# Altium integrated library WE_SMSI_rev20c.IntLib: 169 symbols (part 2 of 3)
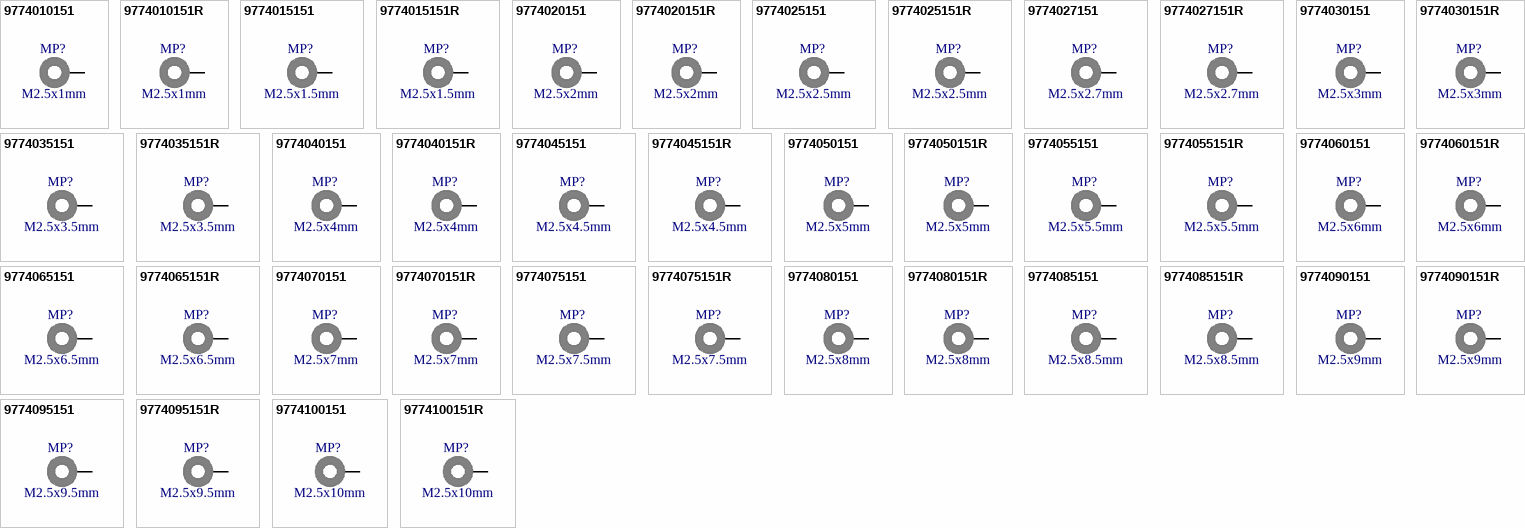
[diagram p7: symbols 9774010151 to 9774100151R]

## 9774070151
designator MP?, comment M2.5x7mm
WA-SMSI SMT Steel Spacer, M2.5 Thread Internal, OD 5.1mm, M2.5x7mm; Manufacturer Part Number: 9774070151; Manufacturer: Wurth Elektronik; Inner Diameter: 3.5mm; Surface: Tin; ComponentLink1Description: Manufacturer; ComponentLink1URL: http://www.we-online.de; ComponentLink2Description: Datasheet; ComponentLink2URL: https://www.we-online.com/catalog/datasheet/9774070151.pdf; Mounting Technology: SMT; Packaging: Bulk; Length: 7mm; Inner Thread Length: -; Operating Temperature: -55 to +150degC; Outer Diameter: 5.1mm; Published Date: April 2020; Material: Steel; Thread: M2.5
footprint 9774070151
pins: 1

## 9774070151R
designator MP?, comment M2.5x7mm
WA-SMSI SMT Steel Spacer, M2.5 Thread Internal, OD 5.1mm, M2.5x7mm; Manufacturer Part Number: 9774070151R; Manufacturer: Wurth Elektronik; Inner Diameter: 3.5mm; Surface: Tin; ComponentLink1Description: Manufacturer; ComponentLink1URL: http://www.we-online.de; ComponentLink2Description: Datasheet; ComponentLink2URL: https://www.we-online.com/catalog/datasheet/9774070151R.pdf; Mounting Technology: SMT; Packaging: Tape and Reel; Length: 7mm; Inner Thread Length: -; Operating Temperature: -55 to +150degC; Outer Diameter: 5.1mm; Published Date: April 2020; Material: Steel; Thread: M2.5
footprint 9774070151
pins: 1

## 9774075151
designator MP?, comment M2.5x7.5mm
WA-SMSI SMT Steel Spacer, M2.5 Thread Internal, OD 5.1mm, M2.5x7.5mm; Manufacturer Part Number: 9774075151; Manufacturer: Wurth Elektronik; Inner Diameter: 3.5mm; Surface: Tin; ComponentLink1Description: Manufacturer; ComponentLink1URL: http://www.we-online.de; ComponentLink2Description: Datasheet; ComponentLink2URL: https://www.we-online.com/catalog/datasheet/9774075151.pdf; Mounting Technology: SMT; Packaging: Bulk; Length: 7.5mm; Inner Thread Length: -; Operating Temperature: -55 to +150degC; Outer Diameter: 5.1mm; Published Date: April 2020; Material: Steel; Thread: M2.5
footprint 9774075151
pins: 1

## 9774075151R
designator MP?, comment M2.5x7.5mm
WA-SMSI SMT Steel Spacer, M2.5 Thread Internal, OD 5.1mm, M2.5x7.5mm; Manufacturer Part Number: 9774075151R; Manufacturer: Wurth Elektronik; Inner Diameter: 3.5mm; Surface: Tin; ComponentLink1Description: Manufacturer; ComponentLink1URL: http://www.we-online.de; ComponentLink2Description: Datasheet; ComponentLink2URL: https://www.we-online.com/catalog/datasheet/9774075151R.pdf; Mounting Technology: SMT; Packaging: Tape and Reel; Length: 7.5mm; Inner Thread Length: -; Operating Temperature: -55 to +150degC; Outer Diameter: 5.1mm; Published Date: April 2020; Material: Steel; Thread: M2.5
footprint 9774075151
pins: 1

## 9774080151
designator MP?, comment M2.5x8mm
WA-SMSI SMT Steel Spacer, M2.5 Thread Internal, OD 5.1mm, M2.5x8mm; Manufacturer Part Number: 9774080151; Manufacturer: Wurth Elektronik; Inner Diameter: 3.5mm; Surface: Tin; ComponentLink1Description: Manufacturer; ComponentLink1URL: http://www.we-online.de; ComponentLink2Description: Datasheet; ComponentLink2URL: https://www.we-online.com/catalog/datasheet/9774080151.pdf; Mounting Technology: SMT; Packaging: Bulk; Length: 8mm; Inner Thread Length: -; Operating Temperature: -55 to +150degC; Outer Diameter: 5.1mm; Published Date: April 2020; Material: Steel; Thread: M2.5
footprint 9774080151
pins: 1

## 9774080151R
designator MP?, comment M2.5x8mm
WA-SMSI SMT Steel Spacer, M2.5 Thread Internal, OD 5.1mm, M2.5x8mm; Manufacturer Part Number: 9774080151R; Manufacturer: Wurth Elektronik; Inner Diameter: 3.5mm; Surface: Tin; ComponentLink1Description: Manufacturer; ComponentLink1URL: http://www.we-online.de; ComponentLink2Description: Datasheet; ComponentLink2URL: https://www.we-online.com/catalog/datasheet/9774080151R.pdf; Mounting Technology: SMT; Packaging: Tape and Reel; Length: 8mm; Inner Thread Length: -; Operating Temperature: -55 to +150degC; Outer Diameter: 5.1mm; Published Date: April 2020; Material: Steel; Thread: M2.5
footprint 9774080151
pins: 1

## 9774085151
designator MP?, comment M2.5x8.5mm
WA-SMSI SMT Steel Spacer, M2.5 Thread Internal, OD 5.1mm, M2.5x8.5mm; Manufacturer Part Number: 9774085151; Manufacturer: Wurth Elektronik; Inner Diameter: 3.5mm; Surface: Tin; ComponentLink1Description: Manufacturer; ComponentLink1URL: http://www.we-online.de; ComponentLink2Description: Datasheet; ComponentLink2URL: https://www.we-online.com/catalog/datasheet/9774085151.pdf; Mounting Technology: SMT; Packaging: Bulk; Length: 8.5mm; Inner Thread Length: -; Operating Temperature: -55 to +150degC; Outer Diameter: 5.1mm; Published Date: April 2020; Material: Steel; Thread: M2.5
footprint 9774085151
pins: 1

## 9774085151R
designator MP?, comment M2.5x8.5mm
WA-SMSI SMT Steel Spacer, M2.5 Thread Internal, OD 5.1mm, M2.5x8.5mm; Manufacturer Part Number: 9774085151R; Manufacturer: Wurth Elektronik; Inner Diameter: 3.5mm; Surface: Tin; ComponentLink1Description: Manufacturer; ComponentLink1URL: http://www.we-online.de; ComponentLink2Description: Datasheet; ComponentLink2URL: https://www.we-online.com/catalog/datasheet/9774085151R.pdf; Mounting Technology: SMT; Packaging: Tape and Reel; Length: 8.5mm; Inner Thread Length: -; Operating Temperature: -55 to +150degC; Outer Diameter: 5.1mm; Published Date: April 2020; Material: Steel; Thread: M2.5
footprint 9774085151
pins: 1

## 9774090151
designator MP?, comment M2.5x9mm
WA-SMSI SMT Steel Spacer, M2.5 Thread Internal, OD 5.1mm, M2.5x9mm; Manufacturer Part Number: 9774090151; Manufacturer: Wurth Elektronik; Inner Diameter: 3.5mm; Surface: Tin; ComponentLink1Description: Manufacturer; ComponentLink1URL: http://www.we-online.de; ComponentLink2Description: Datasheet; ComponentLink2URL: https://www.we-online.com/catalog/datasheet/9774090151.pdf; Mounting Technology: SMT; Packaging: Bulk; Length: 9mm; Inner Thread Length: -; Operating Temperature: -55 to +150degC; Outer Diameter: 5.1mm; Published Date: April 2020; Material: Steel; Thread: M2.5
footprint 9774090151
pins: 1

## 9774090151R
designator MP?, comment M2.5x9mm
WA-SMSI SMT Steel Spacer, M2.5 Thread Internal, OD 5.1mm, M2.5x9mm; Manufacturer Part Number: 9774090151R; Manufacturer: Wurth Elektronik; Inner Diameter: 3.5mm; Surface: Tin; ComponentLink1Description: Manufacturer; ComponentLink1URL: http://www.we-online.de; ComponentLink2Description: Datasheet; ComponentLink2URL: https://www.we-online.com/catalog/datasheet/9774090151R.pdf; Mounting Technology: SMT; Packaging: Tape and Reel; Length: 9mm; Inner Thread Length: -; Operating Temperature: -55 to +150degC; Outer Diameter: 5.1mm; Published Date: April 2020; Material: Steel; Thread: M2.5
footprint 9774090151
pins: 1

## 9774095151
designator MP?, comment M2.5x9.5mm
WA-SMSI SMT Steel Spacer, M2.5 Thread Internal, OD 5.1mm, M2.5x9.5mm; Manufacturer Part Number: 9774095151; Manufacturer: Wurth Elektronik; Inner Diameter: 3.5mm; Surface: Tin; ComponentLink1Description: Manufacturer; ComponentLink1URL: http://www.we-online.de; ComponentLink2Description: Datasheet; ComponentLink2URL: https://www.we-online.com/catalog/datasheet/9774095151.pdf; Mounting Technology: SMT; Packaging: Bulk; Length: 9.5mm; Inner Thread Length: -; Operating Temperature: -55 to +150degC; Outer Diameter: 5.1mm; Published Date: April 2020; Material: Steel; Thread: M2.5
footprint 9774095151
pins: 1

## 9774095151R
designator MP?, comment M2.5x9.5mm
WA-SMSI SMT Steel Spacer, M2.5 Thread Internal, OD 5.1mm, M2.5x9.5mm; Manufacturer Part Number: 9774095151R; Manufacturer: Wurth Elektronik; Inner Diameter: 3.5mm; Surface: Tin; ComponentLink1Description: Manufacturer; ComponentLink1URL: http://www.we-online.de; ComponentLink2Description: Datasheet; ComponentLink2URL: https://www.we-online.com/catalog/datasheet/9774095151R.pdf; Mounting Technology: SMT; Packaging: Tape and Reel; Length: 9.5mm; Inner Thread Length: -; Operating Temperature: -55 to +150degC; Outer Diameter: 5.1mm; Published Date: April 2020; Material: Steel; Thread: M2.5
footprint 9774095151
pins: 1

## 9774100151
designator MP?, comment M2.5x10mm
WA-SMSI SMT Steel Spacer, M2.5 Thread Internal, OD 5.1mm, M2.5x10mm; Manufacturer Part Number: 9774100151; Manufacturer: Wurth Elektronik; Inner Diameter: 3.5mm; Surface: Tin; ComponentLink1Description: Manufacturer; ComponentLink1URL: http://www.we-online.de; ComponentLink2Description: Datasheet; ComponentLink2URL: https://www.we-online.com/catalog/datasheet/9774100151.pdf; Mounting Technology: SMT; Packaging: Bulk; Length: 10mm; Inner Thread Length: -; Operating Temperature: -55 to +150degC; Outer Diameter: 5.1mm; Published Date: April 2020; Material: Steel; Thread: M2.5
footprint 9774100151
pins: 1

## 9774100151R
designator MP?, comment M2.5x10mm
WA-SMSI SMT Steel Spacer, M2.5 Thread Internal, OD 5.1mm, M2.5x10mm; Manufacturer Part Number: 9774100151R; Manufacturer: Wurth Elektronik; Inner Diameter: 3.5mm; Surface: Tin; ComponentLink1Description: Manufacturer; ComponentLink1URL: http://www.we-online.de; ComponentLink2Description: Datasheet; ComponentLink2URL: https://www.we-online.com/catalog/datasheet/9774100151R.pdf; Mounting Technology: SMT; Packaging: Tape and Reel; Length: 10mm; Inner Thread Length: -; Operating Temperature: -55 to +150degC; Outer Diameter: 5.1mm; Published Date: April 2020; Material: Steel; Thread: M2.5
footprint 9774100151
pins: 1


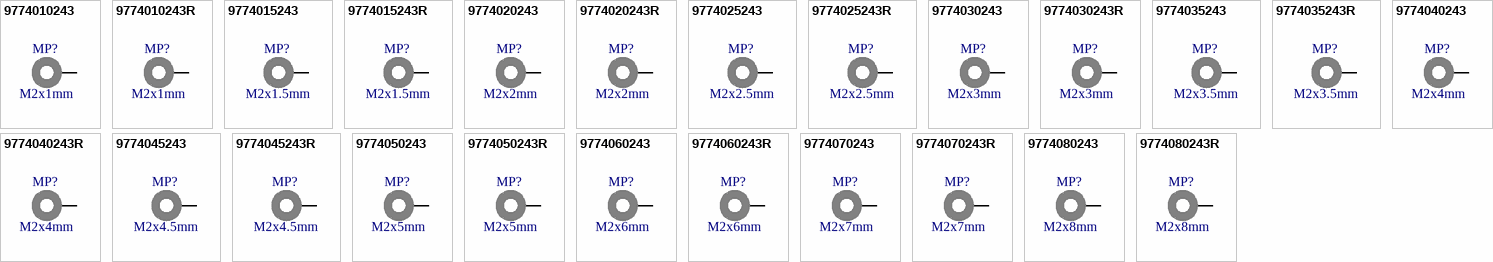
[diagram p3: symbols 9774010243 to 9774080243R]

## 9774010243
designator MP?, comment M2x1mm
WA-SMSI SMT Steel Spacer, M2 Thread Internal, OD 4.35mm, M2x1mm; Manufacturer Part Number: 9774010243; Manufacturer: Wurth Elektronik; Inner Diameter: 2.8mm; Surface: Tin; ComponentLink1Description: Manufacturer; ComponentLink1URL: http://www.we-online.de; ComponentLink2Description: Datasheet; ComponentLink2URL: https://www.we-online.com/catalog/datasheet/9774010243.pdf; Mounting Technology: SMT; Packaging: Bulk; Length: 1mm; Inner Thread Length: -; Operating Temperature: -55 to +150degC; Outer Diameter: 4.35mm; Published Date: April 2020; Material: Steel; Thread: M2
footprint 9774010243
pins: 1

## 9774010243R
designator MP?, comment M2x1mm
WA-SMSI SMT Steel Spacer, M2 Thread Internal, OD 4.35mm, M2x1mm; Manufacturer Part Number: 9774010243R; Manufacturer: Wurth Elektronik; Inner Diameter: 2.8mm; Surface: Tin; ComponentLink1Description: Manufacturer; ComponentLink1URL: http://www.we-online.de; ComponentLink2Description: Datasheet; ComponentLink2URL: https://www.we-online.com/catalog/datasheet/9774010243R.pdf; Mounting Technology: SMT; Packaging: Tape and Reel; Length: 1mm; Inner Thread Length: -; Operating Temperature: -55 to +150degC; Outer Diameter: 4.35mm; Published Date: April 2020; Material: Steel; Thread: M2
footprint 9774010243
pins: 1

## 9774015243
designator MP?, comment M2x1.5mm
WA-SMSI SMT Steel Spacer, M2 Thread Internal, OD 4.35mm, M2x1.5mm; Manufacturer Part Number: 9774015243; Manufacturer: Wurth Elektronik; Inner Diameter: 2.8mm; Surface: Tin; ComponentLink1Description: Manufacturer; ComponentLink1URL: http://www.we-online.de; ComponentLink2Description: Datasheet; ComponentLink2URL: https://www.we-online.com/catalog/datasheet/9774015243.pdf; Mounting Technology: SMT; Packaging: Bulk; Length: 1.5mm; Inner Thread Length: -; Operating Temperature: -55 to +150degC; Outer Diameter: 4.35mm; Published Date: April 2020; Material: Steel; Thread: M2
footprint 9774015243
pins: 1

## 9774015243R
designator MP?, comment M2x1.5mm
WA-SMSI SMT Steel Spacer, M2 Thread Internal, OD 4.35mm, M2x1.5mm; Manufacturer Part Number: 9774015243R; Manufacturer: Wurth Elektronik; Inner Diameter: 2.8mm; Surface: Tin; ComponentLink1Description: Manufacturer; ComponentLink1URL: http://www.we-online.de; ComponentLink2Description: Datasheet; ComponentLink2URL: https://www.we-online.com/catalog/datasheet/9774015243R.pdf; Mounting Technology: SMT; Packaging: Tape and Reel; Length: 1.5mm; Inner Thread Length: -; Operating Temperature: -55 to +150degC; Outer Diameter: 4.35mm; Published Date: April 2020; Material: Steel; Thread: M2
footprint 9774015243
pins: 1

## 9774020243
designator MP?, comment M2x2mm
WA-SMSI SMT Steel Spacer, M2 Thread Internal, OD 4.35mm, M2x2mm; Manufacturer Part Number: 9774020243; Manufacturer: Wurth Elektronik; Inner Diameter: 2.8mm; Surface: Tin; ComponentLink1Description: Manufacturer; ComponentLink1URL: http://www.we-online.de; ComponentLink2Description: Datasheet; ComponentLink2URL: https://www.we-online.com/catalog/datasheet/9774020243.pdf; Mounting Technology: SMT; Packaging: Bulk; Length: 2mm; Inner Thread Length: -; Operating Temperature: -55 to +150degC; Outer Diameter: 4.35mm; Published Date: April 2020; Material: Steel; Thread: M2
footprint 9774020243
pins: 1

## 9774020243R
designator MP?, comment M2x2mm
WA-SMSI SMT Steel Spacer, M2 Thread Internal, OD 4.35mm, M2x2mm; Manufacturer Part Number: 9774020243R; Manufacturer: Wurth Elektronik; Inner Diameter: 2.8mm; Surface: Tin; ComponentLink1Description: Manufacturer; ComponentLink1URL: http://www.we-online.de; ComponentLink2Description: Datasheet; ComponentLink2URL: https://www.we-online.com/catalog/datasheet/9774020243R.pdf; Mounting Technology: SMT; Packaging: Tape and Reel; Length: 2mm; Inner Thread Length: -; Operating Temperature: -55 to +150degC; Outer Diameter: 4.35mm; Published Date: April 2020; Material: Steel; Thread: M2
footprint 9774020243
pins: 1

## 9774025243
designator MP?, comment M2x2.5mm
WA-SMSI SMT Steel Spacer, M2 Thread Internal, OD 4.35mm, M2x2.5mm; Manufacturer Part Number: 9774025243; Manufacturer: Wurth Elektronik; Inner Diameter: 2.8mm; Surface: Tin; ComponentLink1Description: Manufacturer; ComponentLink1URL: http://www.we-online.de; ComponentLink2Description: Datasheet; ComponentLink2URL: https://www.we-online.com/catalog/datasheet/9774025243.pdf; Mounting Technology: SMT; Packaging: Bulk; Length: 2.5mm; Inner Thread Length: -; Operating Temperature: -55 to +150degC; Outer Diameter: 4.35mm; Published Date: April 2020; Material: Steel; Thread: M2
footprint 9774025243
pins: 1

## 9774025243R
designator MP?, comment M2x2.5mm
WA-SMSI SMT Steel Spacer, M2 Thread Internal, OD 4.35mm, M2x2.5mm; Manufacturer Part Number: 9774025243R; Manufacturer: Wurth Elektronik; Inner Diameter: 2.8mm; Surface: Tin; ComponentLink1Description: Manufacturer; ComponentLink1URL: http://www.we-online.de; ComponentLink2Description: Datasheet; ComponentLink2URL: https://www.we-online.com/catalog/datasheet/9774025243R.pdf; Mounting Technology: SMT; Packaging: Tape and Reel; Length: 2.5mm; Inner Thread Length: -; Operating Temperature: -55 to +150degC; Outer Diameter: 4.35mm; Published Date: April 2020; Material: Steel; Thread: M2
footprint 9774025243
pins: 1

## 9774030243
designator MP?, comment M2x3mm
WA-SMSI SMT Steel Spacer, M2 Thread Internal, OD 4.35mm, M2x3mm; Manufacturer Part Number: 9774030243; Manufacturer: Wurth Elektronik; Inner Diameter: 2.8mm; Surface: Tin; ComponentLink1Description: Manufacturer; ComponentLink1URL: http://www.we-online.de; ComponentLink2Description: Datasheet; ComponentLink2URL: https://www.we-online.com/catalog/datasheet/9774030243.pdf; Mounting Technology: SMT; Packaging: Bulk; Length: 3mm; Inner Thread Length: -; Operating Temperature: -55 to +150degC; Outer Diameter: 4.35mm; Published Date: April 2020; Material: Steel; Thread: M2
footprint 9774030243
pins: 1

## 9774030243R
designator MP?, comment M2x3mm
WA-SMSI SMT Steel Spacer, M2 Thread Internal, OD 4.35mm, M2x3mm; Manufacturer Part Number: 9774030243R; Manufacturer: Wurth Elektronik; Inner Diameter: 2.8mm; Surface: Tin; ComponentLink1Description: Manufacturer; ComponentLink1URL: http://www.we-online.de; ComponentLink2Description: Datasheet; ComponentLink2URL: https://www.we-online.com/catalog/datasheet/9774030243R.pdf; Mounting Technology: SMT; Packaging: Tape and Reel; Length: 3mm; Inner Thread Length: -; Operating Temperature: -55 to +150degC; Outer Diameter: 4.35mm; Published Date: April 2020; Material: Steel; Thread: M2
footprint 9774030243
pins: 1

## 9774035243
designator MP?, comment M2x3.5mm
WA-SMSI SMT Steel Spacer, M2 Thread Internal, OD 4.35mm, M2x3.5mm; Manufacturer Part Number: 9774035243; Manufacturer: Wurth Elektronik; Inner Diameter: 2.8mm; Surface: Tin; ComponentLink1Description: Manufacturer; ComponentLink1URL: http://www.we-online.de; ComponentLink2Description: Datasheet; ComponentLink2URL: https://www.we-online.com/catalog/datasheet/9774035243.pdf; Mounting Technology: SMT; Packaging: Bulk; Length: 3.5mm; Inner Thread Length: -; Operating Temperature: -55 to +150degC; Outer Diameter: 4.35mm; Published Date: April 2020; Material: Steel; Thread: M2
footprint 9774035243
pins: 1

## 9774035243R
designator MP?, comment M2x3.5mm
WA-SMSI SMT Steel Spacer, M2 Thread Internal, OD 4.35mm, M2x3.5mm; Manufacturer Part Number: 9774035243R; Manufacturer: Wurth Elektronik; Inner Diameter: 2.8mm; Surface: Tin; ComponentLink1Description: Manufacturer; ComponentLink1URL: http://www.we-online.de; ComponentLink2Description: Datasheet; ComponentLink2URL: https://www.we-online.com/catalog/datasheet/9774035243R.pdf; Mounting Technology: SMT; Packaging: Tape and Reel; Length: 3.5mm; Inner Thread Length: -; Operating Temperature: -55 to +150degC; Outer Diameter: 4.35mm; Published Date: April 2020; Material: Steel; Thread: M2
footprint 9774035243
pins: 1

## 9774040243
designator MP?, comment M2x4mm
WA-SMSI SMT Steel Spacer, M2 Thread Internal, OD 4.35mm, M2x4mm; Manufacturer Part Number: 9774040243; Manufacturer: Wurth Elektronik; Inner Diameter: 2.8mm; Surface: Tin; ComponentLink1Description: Manufacturer; ComponentLink1URL: http://www.we-online.de; ComponentLink2Description: Datasheet; ComponentLink2URL: https://www.we-online.com/catalog/datasheet/9774040243.pdf; Mounting Technology: SMT; Packaging: Bulk; Length: 4mm; Inner Thread Length: -; Operating Temperature: -55 to +150degC; Outer Diameter: 4.35mm; Published Date: April 2020; Material: Steel; Thread: M2
footprint 9774040243
pins: 1

## 9774040243R
designator MP?, comment M2x4mm
WA-SMSI SMT Steel Spacer, M2 Thread Internal, OD 4.35mm, M2x4mm; Manufacturer Part Number: 9774040243R; Manufacturer: Wurth Elektronik; Inner Diameter: 2.8mm; Surface: Tin; ComponentLink1Description: Manufacturer; ComponentLink1URL: http://www.we-online.de; ComponentLink2Description: Datasheet; ComponentLink2URL: https://www.we-online.com/catalog/datasheet/9774040243R.pdf; Mounting Technology: SMT; Packaging: Tape and Reel; Length: 4mm; Inner Thread Length: -; Operating Temperature: -55 to +150degC; Outer Diameter: 4.35mm; Published Date: April 2020; Material: Steel; Thread: M2
footprint 9774040243
pins: 1

## 9774045243
designator MP?, comment M2x4.5mm
WA-SMSI SMT Steel Spacer, M2 Thread Internal, OD 4.35mm, M2x4.5mm; Manufacturer Part Number: 9774045243; Manufacturer: Wurth Elektronik; Inner Diameter: 2.8mm; Surface: Tin; ComponentLink1Description: Manufacturer; ComponentLink1URL: http://www.we-online.de; ComponentLink2Description: Datasheet; ComponentLink2URL: https://www.we-online.com/catalog/datasheet/9774045243.pdf; Mounting Technology: SMT; Packaging: Bulk; Length: 4.5mm; Inner Thread Length: -; Operating Temperature: -55 to +150degC; Outer Diameter: 4.35mm; Published Date: April 2020; Material: Steel; Thread: M2
footprint 9774045243
pins: 1

## 9774045243R
designator MP?, comment M2x4.5mm
WA-SMSI SMT Steel Spacer, M2 Thread Internal, OD 4.35mm, M2x4.5mm; Manufacturer Part Number: 9774045243R; Manufacturer: Wurth Elektronik; Inner Diameter: 2.8mm; Surface: Tin; ComponentLink1Description: Manufacturer; ComponentLink1URL: http://www.we-online.de; ComponentLink2Description: Datasheet; ComponentLink2URL: https://www.we-online.com/catalog/datasheet/9774045243R.pdf; Mounting Technology: SMT; Packaging: Tape and Reel; Length: 4.5mm; Inner Thread Length: -; Operating Temperature: -55 to +150degC; Outer Diameter: 4.35mm; Published Date: April 2020; Material: Steel; Thread: M2
footprint 9774045243
pins: 1

## 9774050243
designator MP?, comment M2x5mm
WA-SMSI SMT Steel Spacer, M2 Thread Internal, OD 4.35mm, M2x5mm; Manufacturer Part Number: 9774050243; Manufacturer: Wurth Elektronik; Inner Diameter: 2.8mm; Surface: Tin; ComponentLink1Description: Manufacturer; ComponentLink1URL: http://www.we-online.de; ComponentLink2Description: Datasheet; ComponentLink2URL: https://www.we-online.com/catalog/datasheet/9774050243.pdf; Mounting Technology: SMT; Packaging: Bulk; Length: 5mm; Inner Thread Length: -; Operating Temperature: -55 to +150degC; Outer Diameter: 4.35mm; Published Date: April 2020; Material: Steel; Thread: M2
footprint 9774050243
pins: 1

## 9774050243R
designator MP?, comment M2x5mm
WA-SMSI SMT Steel Spacer, M2 Thread Internal, OD 4.35mm, M2x5mm; Manufacturer Part Number: 9774050243R; Manufacturer: Wurth Elektronik; Inner Diameter: 2.8mm; Surface: Tin; ComponentLink1Description: Manufacturer; ComponentLink1URL: http://www.we-online.de; ComponentLink2Description: Datasheet; ComponentLink2URL: https://www.we-online.com/catalog/datasheet/9774050243R.pdf; Mounting Technology: SMT; Packaging: Tape and Reel; Length: 5mm; Inner Thread Length: -; Operating Temperature: -55 to +150degC; Outer Diameter: 4.35mm; Published Date: April 2020; Material: Steel; Thread: M2
footprint 9774050243
pins: 1

## 9774060243
designator MP?, comment M2x6mm
WA-SMSI SMT Steel Spacer, M2 Thread Internal, OD 4.35mm, M2x6mm; Manufacturer Part Number: 9774060243; Manufacturer: Wurth Elektronik; Inner Diameter: 2.8mm; Surface: Tin; ComponentLink1Description: Manufacturer; ComponentLink1URL: http://www.we-online.de; ComponentLink2Description: Datasheet; ComponentLink2URL: https://www.we-online.com/catalog/datasheet/9774060243.pdf; Mounting Technology: SMT; Packaging: Bulk; Length: 6mm; Inner Thread Length: -; Operating Temperature: -55 to +150degC; Outer Diameter: 4.35mm; Published Date: April 2020; Material: Steel; Thread: M2
footprint 9774060243
pins: 1

## 9774060243R
designator MP?, comment M2x6mm
WA-SMSI SMT Steel Spacer, M2 Thread Internal, OD 4.35mm, M2x6mm; Manufacturer Part Number: 9774060243R; Manufacturer: Wurth Elektronik; Inner Diameter: 2.8mm; Surface: Tin; ComponentLink1Description: Manufacturer; ComponentLink1URL: http://www.we-online.de; ComponentLink2Description: Datasheet; ComponentLink2URL: https://www.we-online.com/catalog/datasheet/9774060243R.pdf; Mounting Technology: SMT; Packaging: Tape and Reel; Length: 6mm; Inner Thread Length: -; Operating Temperature: -55 to +150degC; Outer Diameter: 4.35mm; Published Date: April 2020; Material: Steel; Thread: M2
footprint 9774060243
pins: 1

## 9774070243
designator MP?, comment M2x7mm
WA-SMSI SMT Steel Spacer, M2 Thread Internal, OD 4.35mm, M2x7mm; Manufacturer Part Number: 9774070243; Manufacturer: Wurth Elektronik; Inner Diameter: 2.8mm; Surface: Tin; ComponentLink1Description: Manufacturer; ComponentLink1URL: http://www.we-online.de; ComponentLink2Description: Datasheet; ComponentLink2URL: https://www.we-online.com/catalog/datasheet/9774070243.pdf; Mounting Technology: SMT; Packaging: Bulk; Length: 7mm; Inner Thread Length: -; Operating Temperature: -55 to +150degC; Outer Diameter: 4.35mm; Published Date: April 2020; Material: Steel; Thread: M2
footprint 9774070243
pins: 1

## 9774070243R
designator MP?, comment M2x7mm
WA-SMSI SMT Steel Spacer, M2 Thread Internal, OD 4.35mm, M2x7mm; Manufacturer Part Number: 9774070243R; Manufacturer: Wurth Elektronik; Inner Diameter: 2.8mm; Surface: Tin; ComponentLink1Description: Manufacturer; ComponentLink1URL: http://www.we-online.de; ComponentLink2Description: Datasheet; ComponentLink2URL: https://www.we-online.com/catalog/datasheet/9774070243R.pdf; Mounting Technology: SMT; Packaging: Tape and Reel; Length: 7mm; Inner Thread Length: -; Operating Temperature: -55 to +150degC; Outer Diameter: 4.35mm; Published Date: April 2020; Material: Steel; Thread: M2
footprint 9774070243
pins: 1

## 9774080243
designator MP?, comment M2x8mm
WA-SMSI SMT Steel Spacer, M2 Thread Internal, OD 4.35mm, M2x8mm; Manufacturer Part Number: 9774080243; Manufacturer: Wurth Elektronik; Inner Diameter: 2.8mm; Surface: Tin; ComponentLink1Description: Manufacturer; ComponentLink1URL: http://www.we-online.de; ComponentLink2Description: Datasheet; ComponentLink2URL: https://www.we-online.com/catalog/datasheet/9774080243.pdf; Mounting Technology: SMT; Packaging: Bulk; Length: 8mm; Inner Thread Length: -; Operating Temperature: -55 to +150degC; Outer Diameter: 4.35mm; Published Date: April 2020; Material: Steel; Thread: M2
footprint 9774080243
pins: 1

## 9774080243R
designator MP?, comment M2x8mm
WA-SMSI SMT Steel Spacer, M2 Thread Internal, OD 4.35mm, M2x8mm; Manufacturer Part Number: 9774080243R; Manufacturer: Wurth Elektronik; Inner Diameter: 2.8mm; Surface: Tin; ComponentLink1Description: Manufacturer; ComponentLink1URL: http://www.we-online.de; ComponentLink2Description: Datasheet; ComponentLink2URL: https://www.we-online.com/catalog/datasheet/9774080243R.pdf; Mounting Technology: SMT; Packaging: Tape and Reel; Length: 8mm; Inner Thread Length: -; Operating Temperature: -55 to +150degC; Outer Diameter: 4.35mm; Published Date: April 2020; Material: Steel; Thread: M2
footprint 9774080243
pins: 1


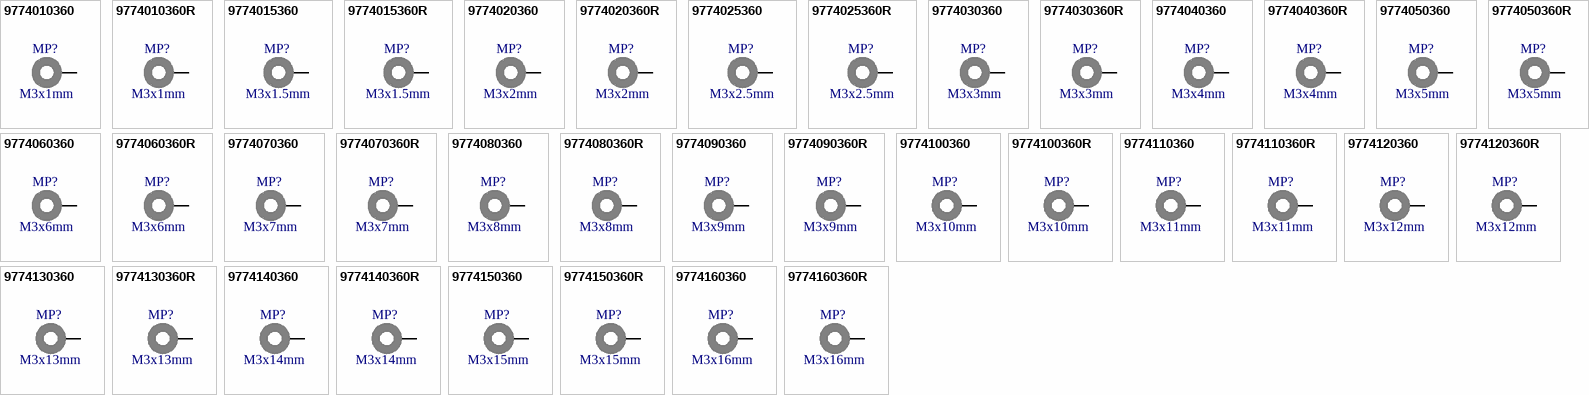
[diagram p4: symbols 9774010360 to 9774160360R]

## 9774010360
designator MP?, comment M3x1mm
WA-SMSI SMT Steel Spacer, M3 Thread Internal, OD 6mm, M3x1mm; Manufacturer Part Number: 9774010360; Manufacturer: Wurth Elektronik; Inner Diameter: 4.2mm; Surface: Tin; ComponentLink1Description: Manufacturer; ComponentLink1URL: http://www.we-online.de; ComponentLink2Description: Datasheet; ComponentLink2URL: https://www.we-online.com/catalog/datasheet/9774010360.pdf; Mounting Technology: SMT; Packaging: Bulk; Length: 1mm; Inner Thread Length: -; Operating Temperature: -55 to +150degC; Outer Diameter: 6mm; Published Date: April 2020; Material: Steel; Thread: M3
footprint 9774010360
pins: 1

## 9774010360R
designator MP?, comment M3x1mm
WA-SMSI SMT Steel Spacer, M3 Thread Internal, OD 6mm, M3x1mm; Manufacturer Part Number: 9774010360R; Manufacturer: Wurth Elektronik; Inner Diameter: 4.2mm; Surface: Tin; ComponentLink1Description: Manufacturer; ComponentLink1URL: http://www.we-online.de; ComponentLink2Description: Datasheet; ComponentLink2URL: https://www.we-online.com/catalog/datasheet/9774010360R.pdf; Mounting Technology: SMT; Packaging: Tape and Reel; Length: 1mm; Inner Thread Length: -; Operating Temperature: -55 to +150degC; Outer Diameter: 6mm; Published Date: April 2020; Material: Steel; Thread: M3
footprint 9774010360
pins: 1

## 9774015360
designator MP?, comment M3x1.5mm
WA-SMSI SMT Steel Spacer, M3 Thread Internal, OD 6mm, M3x1.5mm; Manufacturer Part Number: 9774015360; Manufacturer: Wurth Elektronik; Inner Diameter: 4.2mm; Surface: Tin; ComponentLink1Description: Manufacturer; ComponentLink1URL: http://www.we-online.de; ComponentLink2Description: Datasheet; ComponentLink2URL: https://www.we-online.com/catalog/datasheet/9774015360.pdf; Mounting Technology: SMT; Packaging: Bulk; Length: 1.5mm; Inner Thread Length: -; Operating Temperature: -55 to +150degC; Outer Diameter: 6mm; Published Date: April 2020; Material: Steel; Thread: M3
footprint 9774015360
pins: 1

## 9774015360R
designator MP?, comment M3x1.5mm
WA-SMSI SMT Steel Spacer, M3 Thread Internal, OD 6mm, M3x1.5mm; Manufacturer Part Number: 9774015360R; Manufacturer: Wurth Elektronik; Inner Diameter: 4.2mm; Surface: Tin; ComponentLink1Description: Manufacturer; ComponentLink1URL: http://www.we-online.de; ComponentLink2Description: Datasheet; ComponentLink2URL: https://www.we-online.com/catalog/datasheet/9774015360R.pdf; Mounting Technology: SMT; Packaging: Tape and Reel; Length: 1.5mm; Inner Thread Length: -; Operating Temperature: -55 to +150degC; Outer Diameter: 6mm; Published Date: April 2020; Material: Steel; Thread: M3
footprint 9774015360
pins: 1

## 9774020360
designator MP?, comment M3x2mm
WA-SMSI SMT Steel Spacer, M3 Thread Internal, OD 6mm, M3x2mm; Manufacturer Part Number: 9774020360; Manufacturer: Wurth Elektronik; Inner Diameter: 4.2mm; Surface: Tin; ComponentLink1Description: Manufacturer; ComponentLink1URL: http://www.we-online.de; ComponentLink2Description: Datasheet; ComponentLink2URL: https://www.we-online.com/catalog/datasheet/9774020360.pdf; Mounting Technology: SMT; Packaging: Bulk; Length: 2mm; Inner Thread Length: -; Operating Temperature: -55 to +150degC; Outer Diameter: 6mm; Published Date: April 2020; Material: Steel; Thread: M3
footprint 9774020360
pins: 1

## 9774020360R
designator MP?, comment M3x2mm
WA-SMSI SMT Steel Spacer, M3 Thread Internal, OD 6mm, M3x2mm; Manufacturer Part Number: 9774020360R; Manufacturer: Wurth Elektronik; Inner Diameter: 4.2mm; Surface: Tin; ComponentLink1Description: Manufacturer; ComponentLink1URL: http://www.we-online.de; ComponentLink2Description: Datasheet; ComponentLink2URL: https://www.we-online.com/catalog/datasheet/9774020360R.pdf; Mounting Technology: SMT; Packaging: Tape and Reel; Length: 2mm; Inner Thread Length: -; Operating Temperature: -55 to +150degC; Outer Diameter: 6mm; Published Date: April 2020; Material: Steel; Thread: M3
footprint 9774020360
pins: 1

## 9774025360
designator MP?, comment M3x2.5mm
WA-SMSI SMT Steel Spacer, M3 Thread Internal, OD 6mm, M3x2.5mm; Manufacturer Part Number: 9774025360; Manufacturer: Wurth Elektronik; Inner Diameter: 4.2mm; Surface: Tin; ComponentLink1Description: Manufacturer; ComponentLink1URL: http://www.we-online.de; ComponentLink2Description: Datasheet; ComponentLink2URL: https://www.we-online.com/catalog/datasheet/9774025360.pdf; Mounting Technology: SMT; Packaging: Bulk; Length: 2.5mm; Inner Thread Length: -; Operating Temperature: -55 to +150degC; Outer Diameter: 6mm; Published Date: April 2020; Material: Steel; Thread: M3
footprint 9774025360
pins: 1

## 9774025360R
designator MP?, comment M3x2.5mm
WA-SMSI SMT Steel Spacer, M3 Thread Internal, OD 6mm, M3x2.5mm; Manufacturer Part Number: 9774025360R; Manufacturer: Wurth Elektronik; Inner Diameter: 4.2mm; Surface: Tin; ComponentLink1Description: Manufacturer; ComponentLink1URL: http://www.we-online.de; ComponentLink2Description: Datasheet; ComponentLink2URL: https://www.we-online.com/catalog/datasheet/9774025360R.pdf; Mounting Technology: SMT; Packaging: Tape and Reel; Length: 2.5mm; Inner Thread Length: -; Operating Temperature: -55 to +150degC; Outer Diameter: 6mm; Published Date: April 2020; Material: Steel; Thread: M3
footprint 9774025360
pins: 1

## 9774030360
designator MP?, comment M3x3mm
WA-SMSI SMT Steel Spacer, M3 Thread Internal, OD 6mm, M3x3mm; Manufacturer Part Number: 9774030360; Manufacturer: Wurth Elektronik; Inner Diameter: 4.2mm; Surface: Tin; ComponentLink1Description: Manufacturer; ComponentLink1URL: http://www.we-online.de; ComponentLink2Description: Datasheet; ComponentLink2URL: https://www.we-online.com/catalog/datasheet/9774030360.pdf; Mounting Technology: SMT; Packaging: Bulk; Length: 3mm; Inner Thread Length: -; Operating Temperature: -55 to +150degC; Outer Diameter: 6mm; Published Date: April 2020; Material: Steel; Thread: M3
footprint 9774030360
pins: 1

## 9774030360R
designator MP?, comment M3x3mm
WA-SMSI SMT Steel Spacer, M3 Thread Internal, OD 6mm, M3x3mm; Manufacturer Part Number: 9774030360R; Manufacturer: Wurth Elektronik; Inner Diameter: 4.2mm; Surface: Tin; ComponentLink1Description: Manufacturer; ComponentLink1URL: http://www.we-online.de; ComponentLink2Description: Datasheet; ComponentLink2URL: https://www.we-online.com/catalog/datasheet/9774030360R.pdf; Mounting Technology: SMT; Packaging: Tape and Reel; Length: 3mm; Inner Thread Length: -; Operating Temperature: -55 to +150degC; Outer Diameter: 6mm; Published Date: April 2020; Material: Steel; Thread: M3
footprint 9774030360
pins: 1

## 9774040360
designator MP?, comment M3x4mm
WA-SMSI SMT Steel Spacer, M3 Thread Internal, OD 6mm, M3x4mm; Manufacturer Part Number: 9774040360; Manufacturer: Wurth Elektronik; Inner Diameter: 4.2mm; Surface: Tin; ComponentLink1Description: Manufacturer; ComponentLink1URL: http://www.we-online.de; ComponentLink2Description: Datasheet; ComponentLink2URL: https://www.we-online.com/catalog/datasheet/9774040360.pdf; Mounting Technology: SMT; Packaging: Bulk; Length: 4mm; Inner Thread Length: -; Operating Temperature: -55 to +150degC; Outer Diameter: 6mm; Published Date: April 2020; Material: Steel; Thread: M3
footprint 9774040360
pins: 1

## 9774040360R
designator MP?, comment M3x4mm
WA-SMSI SMT Steel Spacer, M3 Thread Internal, OD 6mm, M3x4mm; Manufacturer Part Number: 9774040360R; Manufacturer: Wurth Elektronik; Inner Diameter: 4.2mm; Surface: Tin; ComponentLink1Description: Manufacturer; ComponentLink1URL: http://www.we-online.de; ComponentLink2Description: Datasheet; ComponentLink2URL: https://www.we-online.com/catalog/datasheet/9774040360R.pdf; Mounting Technology: SMT; Packaging: Tape and Reel; Length: 4mm; Inner Thread Length: -; Operating Temperature: -55 to +150degC; Outer Diameter: 6mm; Published Date: April 2020; Material: Steel; Thread: M3
footprint 9774040360
pins: 1

## 9774050360
designator MP?, comment M3x5mm
WA-SMSI SMT Steel Spacer, M3 Thread Internal, OD 6mm, M3x5mm; Manufacturer Part Number: 9774050360; Manufacturer: Wurth Elektronik; Inner Diameter: 4.2mm; Surface: Tin; ComponentLink1Description: Manufacturer; ComponentLink1URL: http://www.we-online.de; ComponentLink2Description: Datasheet; ComponentLink2URL: https://www.we-online.com/catalog/datasheet/9774050360.pdf; Mounting Technology: SMT; Packaging: Bulk; Length: 5mm; Inner Thread Length: -; Operating Temperature: -55 to +150degC; Outer Diameter: 6mm; Published Date: April 2020; Material: Steel; Thread: M3
footprint 9774050360
pins: 1

## 9774050360R
designator MP?, comment M3x5mm
WA-SMSI SMT Steel Spacer, M3 Thread Internal, OD 6mm, M3x5mm; Manufacturer Part Number: 9774050360R; Manufacturer: Wurth Elektronik; Inner Diameter: 4.2mm; Surface: Tin; ComponentLink1Description: Manufacturer; ComponentLink1URL: http://www.we-online.de; ComponentLink2Description: Datasheet; ComponentLink2URL: https://www.we-online.com/catalog/datasheet/9774050360R.pdf; Mounting Technology: SMT; Packaging: Tape and Reel; Length: 5mm; Inner Thread Length: -; Operating Temperature: -55 to +150degC; Outer Diameter: 6mm; Published Date: April 2020; Material: Steel; Thread: M3
footprint 9774050360
pins: 1

## 9774060360
designator MP?, comment M3x6mm
WA-SMSI SMT Steel Spacer, M3 Thread Internal, OD 6mm, M3x6mm; Manufacturer Part Number: 9774060360; Manufacturer: Wurth Elektronik; Inner Diameter: 4.2mm; Surface: Tin; ComponentLink1Description: Manufacturer; ComponentLink1URL: http://www.we-online.de; ComponentLink2Description: Datasheet; ComponentLink2URL: https://www.we-online.com/catalog/datasheet/9774060360.pdf; Mounting Technology: SMT; Packaging: Bulk; Length: 6mm; Inner Thread Length: -; Operating Temperature: -55 to +150degC; Outer Diameter: 6mm; Published Date: April 2020; Material: Steel; Thread: M3
footprint 9774060360
pins: 1

## 9774060360R
designator MP?, comment M3x6mm
WA-SMSI SMT Steel Spacer, M3 Thread Internal, OD 6mm, M3x6mm; Manufacturer Part Number: 9774060360R; Manufacturer: Wurth Elektronik; Inner Diameter: 4.2mm; Surface: Tin; ComponentLink1Description: Manufacturer; ComponentLink1URL: http://www.we-online.de; ComponentLink2Description: Datasheet; ComponentLink2URL: https://www.we-online.com/catalog/datasheet/9774060360R.pdf; Mounting Technology: SMT; Packaging: Tape and Reel; Length: 6mm; Inner Thread Length: -; Operating Temperature: -55 to +150degC; Outer Diameter: 6mm; Published Date: April 2020; Material: Steel; Thread: M3
footprint 9774060360
pins: 1

## 9774070360
designator MP?, comment M3x7mm
WA-SMSI SMT Steel Spacer, M3 Thread Internal, OD 6mm, M3x7mm; Manufacturer Part Number: 9774070360; Manufacturer: Wurth Elektronik; Inner Diameter: 4.2mm; Surface: Tin; ComponentLink1Description: Manufacturer; ComponentLink1URL: http://www.we-online.de; ComponentLink2Description: Datasheet; ComponentLink2URL: https://www.we-online.com/catalog/datasheet/9774070360.pdf; Mounting Technology: SMT; Packaging: Bulk; Length: 7mm; Inner Thread Length: -; Operating Temperature: -55 to +150degC; Outer Diameter: 6mm; Published Date: April 2020; Material: Steel; Thread: M3
footprint 9774070360
pins: 1

## 9774070360R
designator MP?, comment M3x7mm
WA-SMSI SMT Steel Spacer, M3 Thread Internal, OD 6mm, M3x7mm; Manufacturer Part Number: 9774070360R; Manufacturer: Wurth Elektronik; Inner Diameter: 4.2mm; Surface: Tin; ComponentLink1Description: Manufacturer; ComponentLink1URL: http://www.we-online.de; ComponentLink2Description: Datasheet; ComponentLink2URL: https://www.we-online.com/catalog/datasheet/9774070360R.pdf; Mounting Technology: SMT; Packaging: Tape and Reel; Length: 7mm; Inner Thread Length: -; Operating Temperature: -55 to +150degC; Outer Diameter: 6mm; Published Date: April 2020; Material: Steel; Thread: M3
footprint 9774070360
pins: 1

## 9774080360
designator MP?, comment M3x8mm
WA-SMSI SMT Steel Spacer, M3 Thread Internal, OD 6mm, M3x8mm; Manufacturer Part Number: 9774080360; Manufacturer: Wurth Elektronik; Inner Diameter: 4.2mm; Surface: Tin; ComponentLink1Description: Manufacturer; ComponentLink1URL: http://www.we-online.de; ComponentLink2Description: Datasheet; ComponentLink2URL: https://www.we-online.com/catalog/datasheet/9774080360.pdf; Mounting Technology: SMT; Packaging: Bulk; Length: 8mm; Inner Thread Length: -; Operating Temperature: -55 to +150degC; Outer Diameter: 6mm; Published Date: April 2020; Material: Steel; Thread: M3
footprint 9774080360
pins: 1

## 9774080360R
designator MP?, comment M3x8mm
WA-SMSI SMT Steel Spacer, M3 Thread Internal, OD 6mm, M3x8mm; Manufacturer Part Number: 9774080360R; Manufacturer: Wurth Elektronik; Inner Diameter: 4.2mm; Surface: Tin; ComponentLink1Description: Manufacturer; ComponentLink1URL: http://www.we-online.de; ComponentLink2Description: Datasheet; ComponentLink2URL: https://www.we-online.com/catalog/datasheet/9774080360R.pdf; Mounting Technology: SMT; Packaging: Tape and Reel; Length: 8mm; Inner Thread Length: -; Operating Temperature: -55 to +150degC; Outer Diameter: 6mm; Published Date: April 2020; Material: Steel; Thread: M3
footprint 9774080360
pins: 1

## 9774090360
designator MP?, comment M3x9mm
WA-SMSI SMT Steel Spacer, M3 Thread Internal, OD 6mm, M3x9mm; Manufacturer Part Number: 9774090360; Manufacturer: Wurth Elektronik; Inner Diameter: 4.2mm; Surface: Tin; ComponentLink1Description: Manufacturer; ComponentLink1URL: http://www.we-online.de; ComponentLink2Description: Datasheet; ComponentLink2URL: https://www.we-online.com/catalog/datasheet/9774090360.pdf; Mounting Technology: SMT; Packaging: Bulk; Length: 9mm; Inner Thread Length: -; Operating Temperature: -55 to +150degC; Outer Diameter: 6mm; Published Date: April 2020; Material: Steel; Thread: M3
footprint 9774090360
pins: 1

## 9774090360R
designator MP?, comment M3x9mm
WA-SMSI SMT Steel Spacer, M3 Thread Internal, OD 6mm, M3x9mm; Manufacturer Part Number: 9774090360R; Manufacturer: Wurth Elektronik; Inner Diameter: 4.2mm; Surface: Tin; ComponentLink1Description: Manufacturer; ComponentLink1URL: http://www.we-online.de; ComponentLink2Description: Datasheet; ComponentLink2URL: https://www.we-online.com/catalog/datasheet/9774090360R.pdf; Mounting Technology: SMT; Packaging: Tape and Reel; Length: 9mm; Inner Thread Length: -; Operating Temperature: -55 to +150degC; Outer Diameter: 6mm; Published Date: April 2020; Material: Steel; Thread: M3
footprint 9774090360
pins: 1

## 9774100360
designator MP?, comment M3x10mm
WA-SMSI SMT Steel Spacer, M3 Thread Internal, OD 6mm, M3x10mm; Manufacturer Part Number: 9774100360; Manufacturer: Wurth Elektronik; Inner Diameter: 4.2mm; Surface: Tin; ComponentLink1Description: Manufacturer; ComponentLink1URL: http://www.we-online.de; ComponentLink2Description: Datasheet; ComponentLink2URL: https://www.we-online.com/catalog/datasheet/9774100360.pdf; Mounting Technology: SMT; Packaging: Bulk; Length: 10mm; Inner Thread Length: -; Operating Temperature: -55 to +150degC; Outer Diameter: 6mm; Published Date: April 2020; Material: Steel; Thread: M3
footprint 9774100360
pins: 1

## 9774100360R
designator MP?, comment M3x10mm
WA-SMSI SMT Steel Spacer, M3 Thread Internal, OD 6mm, M3x10mm; Manufacturer Part Number: 9774100360R; Manufacturer: Wurth Elektronik; Inner Diameter: 4.2mm; Surface: Tin; ComponentLink1Description: Manufacturer; ComponentLink1URL: http://www.we-online.de; ComponentLink2Description: Datasheet; ComponentLink2URL: https://www.we-online.com/catalog/datasheet/9774100360R.pdf; Mounting Technology: SMT; Packaging: Tape and Reel; Length: 10mm; Inner Thread Length: -; Operating Temperature: -55 to +150degC; Outer Diameter: 6mm; Published Date: April 2020; Material: Steel; Thread: M3
footprint 9774100360
pins: 1

## 9774110360
designator MP?, comment M3x11mm
WA-SMSI SMT Steel Spacer, M3 Thread Internal, OD 6mm, M3x11mm; Manufacturer Part Number: 9774110360; Manufacturer: Wurth Elektronik; Inner Diameter: 4.2mm; Surface: Tin; ComponentLink1Description: Manufacturer; ComponentLink1URL: http://www.we-online.de; ComponentLink2Description: Datasheet; ComponentLink2URL: https://www.we-online.com/catalog/datasheet/9774110360.pdf; Mounting Technology: SMT; Packaging: Bulk; Length: 11mm; Inner Thread Length: -; Operating Temperature: -55 to +150degC; Outer Diameter: 6mm; Published Date: April 2020; Material: Steel; Thread: M3
footprint 9774110360
pins: 1

## 9774110360R
designator MP?, comment M3x11mm
WA-SMSI SMT Steel Spacer, M3 Thread Internal, OD 6mm, M3x11mm; Manufacturer Part Number: 9774110360R; Manufacturer: Wurth Elektronik; Inner Diameter: 4.2mm; Surface: Tin; ComponentLink1Description: Manufacturer; ComponentLink1URL: http://www.we-online.de; ComponentLink2Description: Datasheet; ComponentLink2URL: https://www.we-online.com/catalog/datasheet/9774110360R.pdf; Mounting Technology: SMT; Packaging: Tape and Reel; Length: 11mm; Inner Thread Length: -; Operating Temperature: -55 to +150degC; Outer Diameter: 6mm; Published Date: April 2020; Material: Steel; Thread: M3
footprint 9774110360
pins: 1

## 9774120360
designator MP?, comment M3x12mm
WA-SMSI SMT Steel Spacer, M3 Thread Internal, OD 6mm, M3x12mm; Manufacturer Part Number: 9774120360; Manufacturer: Wurth Elektronik; Inner Diameter: 4.2mm; Surface: Tin; ComponentLink1Description: Manufacturer; ComponentLink1URL: http://www.we-online.de; ComponentLink2Description: Datasheet; ComponentLink2URL: https://www.we-online.com/catalog/datasheet/9774120360.pdf; Mounting Technology: SMT; Packaging: Bulk; Length: 12mm; Inner Thread Length: -; Operating Temperature: -55 to +150degC; Outer Diameter: 6mm; Published Date: April 2020; Material: Steel; Thread: M3
footprint 9774120360
pins: 1

## 9774120360R
designator MP?, comment M3x12mm
WA-SMSI SMT Steel Spacer, M3 Thread Internal, OD 6mm, M3x12mm; Manufacturer Part Number: 9774120360R; Manufacturer: Wurth Elektronik; Inner Diameter: 4.2mm; Surface: Tin; ComponentLink1Description: Manufacturer; ComponentLink1URL: http://www.we-online.de; ComponentLink2Description: Datasheet; ComponentLink2URL: https://www.we-online.com/catalog/datasheet/9774120360R.pdf; Mounting Technology: SMT; Packaging: Tape and Reel; Length: 12mm; Inner Thread Length: -; Operating Temperature: -55 to +150degC; Outer Diameter: 6mm; Published Date: April 2020; Material: Steel; Thread: M3
footprint 9774120360
pins: 1

## 9774130360
designator MP?, comment M3x13mm
WA-SMSI SMT Steel Spacer, M3 Thread Internal, OD 6mm, M3x13mm; Manufacturer Part Number: 9774130360; Manufacturer: Wurth Elektronik; Inner Diameter: 4.2mm; Surface: Tin; ComponentLink1Description: Manufacturer; ComponentLink1URL: http://www.we-online.de; ComponentLink2Description: Datasheet; ComponentLink2URL: https://www.we-online.com/catalog/datasheet/9774130360.pdf; Mounting Technology: SMT; Packaging: Bulk; Length: 13mm; Inner Thread Length: -; Operating Temperature: -55 to +150degC; Outer Diameter: 6mm; Published Date: April 2020; Material: Steel; Thread: M3
footprint 9774130360
pins: 1

## 9774130360R
designator MP?, comment M3x13mm
WA-SMSI SMT Steel Spacer, M3 Thread Internal, OD 6mm, M3x13mm; Manufacturer Part Number: 9774130360R; Manufacturer: Wurth Elektronik; Inner Diameter: 4.2mm; Surface: Tin; ComponentLink1Description: Manufacturer; ComponentLink1URL: http://www.we-online.de; ComponentLink2Description: Datasheet; ComponentLink2URL: https://www.we-online.com/catalog/datasheet/9774130360R.pdf; Mounting Technology: SMT; Packaging: Tape and Reel; Length: 13mm; Inner Thread Length: -; Operating Temperature: -55 to +150degC; Outer Diameter: 6mm; Published Date: April 2020; Material: Steel; Thread: M3
footprint 9774130360
pins: 1

## 9774140360
designator MP?, comment M3x14mm
WA-SMSI SMT Steel Spacer, M3 Thread Internal, OD 6mm, M3x14mm; Manufacturer Part Number: 9774140360; Manufacturer: Wurth Elektronik; Inner Diameter: 4.2mm; Surface: Tin; ComponentLink1Description: Manufacturer; ComponentLink1URL: http://www.we-online.de; ComponentLink2Description: Datasheet; ComponentLink2URL: https://www.we-online.com/catalog/datasheet/9774140360.pdf; Mounting Technology: SMT; Packaging: Bulk; Length: 14mm; Inner Thread Length: -; Operating Temperature: -55 to +150degC; Outer Diameter: 6mm; Published Date: April 2020; Material: Steel; Thread: M3
footprint 9774140360
pins: 1

## 9774140360R
designator MP?, comment M3x14mm
WA-SMSI SMT Steel Spacer, M3 Thread Internal, OD 6mm, M3x14mm; Manufacturer Part Number: 9774140360R; Manufacturer: Wurth Elektronik; Inner Diameter: 4.2mm; Surface: Tin; ComponentLink1Description: Manufacturer; ComponentLink1URL: http://www.we-online.de; ComponentLink2Description: Datasheet; ComponentLink2URL: https://www.we-online.com/catalog/datasheet/9774140360R.pdf; Mounting Technology: SMT; Packaging: Tape and Reel; Length: 14mm; Inner Thread Length: -; Operating Temperature: -55 to +150degC; Outer Diameter: 6mm; Published Date: April 2020; Material: Steel; Thread: M3
footprint 9774140360
pins: 1

## 9774150360
designator MP?, comment M3x15mm
WA-SMSI SMT Steel Spacer, M3 Thread Internal, OD 6mm, M3x15mm; Manufacturer Part Number: 9774150360; Manufacturer: Wurth Elektronik; Inner Diameter: 4.2mm; Surface: Tin; ComponentLink1Description: Manufacturer; ComponentLink1URL: http://www.we-online.de; ComponentLink2Description: Datasheet; ComponentLink2URL: https://www.we-online.com/catalog/datasheet/9774150360.pdf; Mounting Technology: SMT; Packaging: Bulk; Length: 15mm; Inner Thread Length: -; Operating Temperature: -55 to +150degC; Outer Diameter: 6mm; Published Date: April 2020; Material: Steel; Thread: M3
footprint 9774150360
pins: 1

## 9774150360R
designator MP?, comment M3x15mm
WA-SMSI SMT Steel Spacer, M3 Thread Internal, OD 6mm, M3x15mm; Manufacturer Part Number: 9774150360R; Manufacturer: Wurth Elektronik; Inner Diameter: 4.2mm; Surface: Tin; ComponentLink1Description: Manufacturer; ComponentLink1URL: http://www.we-online.de; ComponentLink2Description: Datasheet; ComponentLink2URL: https://www.we-online.com/catalog/datasheet/9774150360R.pdf; Mounting Technology: SMT; Packaging: Tape and Reel; Length: 15mm; Inner Thread Length: -; Operating Temperature: -55 to +150degC; Outer Diameter: 6mm; Published Date: April 2020; Material: Steel; Thread: M3
footprint 9774150360
pins: 1

## 9774160360
designator MP?, comment M3x16mm
WA-SMSI SMT Steel Spacer, M3 Thread Internal, OD 6mm, M3x16mm; Manufacturer Part Number: 9774160360; Manufacturer: Wurth Elektronik; Inner Diameter: 4.2mm; Surface: Tin; ComponentLink1Description: Manufacturer; ComponentLink1URL: http://www.we-online.de; ComponentLink2Description: Datasheet; ComponentLink2URL: https://www.we-online.com/catalog/datasheet/9774160360.pdf; Mounting Technology: SMT; Packaging: Bulk; Length: 16mm; Inner Thread Length: -; Operating Temperature: -55 to +150degC; Outer Diameter: 6mm; Published Date: May 2020; Material: Steel; Thread: M3
footprint 9774160360
pins: 1

## 9774160360R
designator MP?, comment M3x16mm
WA-SMSI SMT Steel Spacer, M3 Thread Internal, OD 6mm, M3x16mm; Manufacturer Part Number: 9774160360R; Manufacturer: Wurth Elektronik; Inner Diameter: 4.2mm; Surface: Tin; ComponentLink1Description: Manufacturer; ComponentLink1URL: http://www.we-online.de; ComponentLink2Description: Datasheet; ComponentLink2URL: https://www.we-online.com/catalog/datasheet/9774160360R.pdf; Mounting Technology: SMT; Packaging: Tape and Reel; Length: 16mm; Inner Thread Length: -; Operating Temperature: -55 to +150degC; Outer Diameter: 6mm; Published Date: May 2020; Material: Steel; Thread: M3
footprint 9774160360
pins: 1


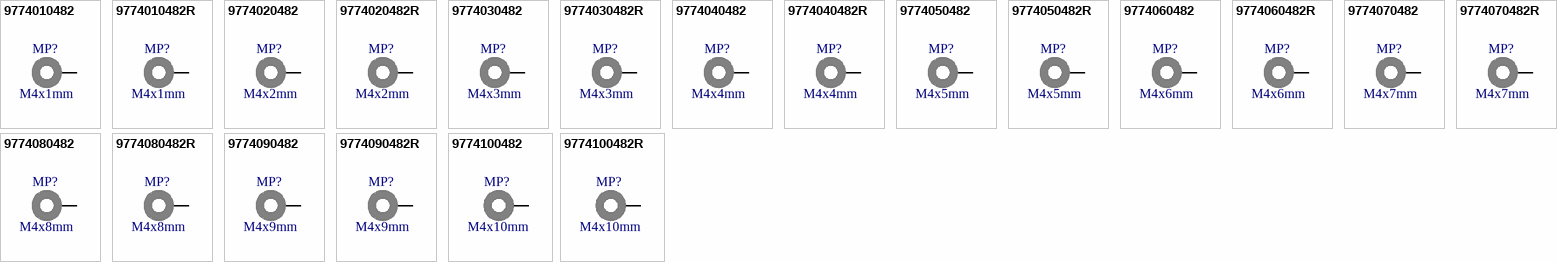
[diagram p5: symbols 9774010482 to 9774100482R]

## 9774010482
designator MP?, comment M4x1mm
WA-SMSI SMT Steel Spacer, M4 Thread Internal, OD 8.2mm, M4x1mm; Manufacturer Part Number: 9774010482; Manufacturer: Wurth Elektronik; Inner Diameter: 5.2mm; Surface: Tin; ComponentLink1Description: Manufacturer; ComponentLink1URL: http://www.we-online.de; ComponentLink2Description: Datasheet; ComponentLink2URL: https://www.we-online.com/catalog/datasheet/9774010482.pdf; Mounting Technology: SMT; Packaging: Bulk; Length: 1mm; Inner Thread Length: -; Operating Temperature: -55 to +150degC; Outer Diameter: 8.2mm; Published Date: April 2020; Material: Steel; Thread: M4
footprint 9774010482
pins: 1

## 9774010482R
designator MP?, comment M4x1mm
WA-SMSI SMT Steel Spacer, M4 Thread Internal, OD 8.2mm, M4x1mm; Manufacturer Part Number: 9774010482R; Manufacturer: Wurth Elektronik; Inner Diameter: 5.2mm; Surface: Tin; ComponentLink1Description: Manufacturer; ComponentLink1URL: http://www.we-online.de; ComponentLink2Description: Datasheet; ComponentLink2URL: https://www.we-online.com/catalog/datasheet/9774010482R.pdf; Mounting Technology: SMT; Packaging: Tape and Reel; Length: 1mm; Inner Thread Length: -; Operating Temperature: -55 to +150degC; Outer Diameter: 8.2mm; Published Date: April 2020; Material: Steel; Thread: M4
footprint 9774010482
pins: 1